# Altium footprint library ELEC(8.0X9.0)-TH.PcbLib: 1 footprints
Each footprint in its own frame and in the unit in brackets; x right, y up, seen from the top. Pads: shape width x height; smd on the part's side, far side on the other; paste and mask are expansions set on the pad; w line width, h text height; cw(c..) or ccw(c..) is an arc to the next point about the centre after c.
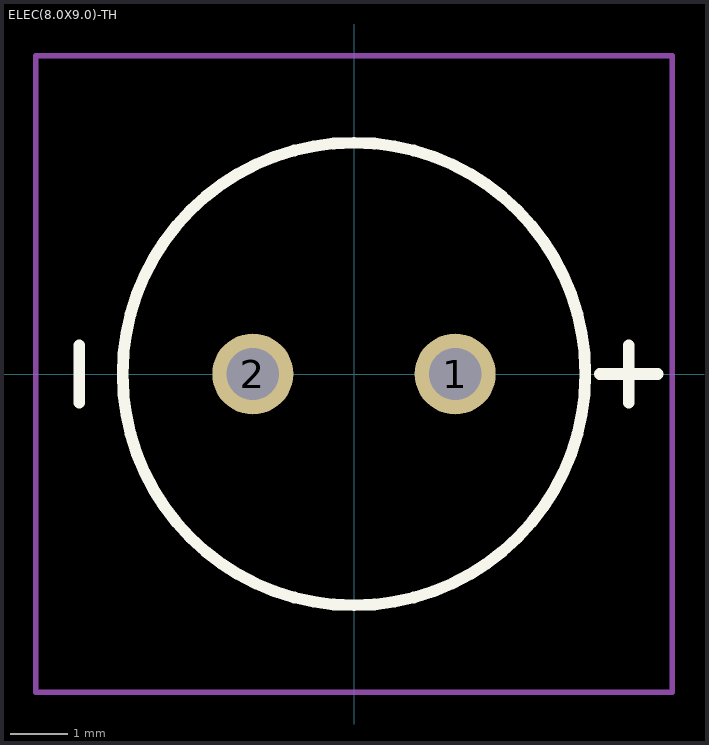
[diagram p0: the footprint, top view; thin cyan lines are the x and y axes]

## ELEC(8.0X9.0)-TH [mm]
pads (2):
  round 1.4 hole 0.9: 1(1.75,0) 2(-1.75,0)
Top Overlay:
  circle w0.2: c0,0 r4
  lines w0.2: -4.75,-0.5 -4.75,0.5 ; 4.25,0 5.25,0 ; 4.75,-0.5 4.75,0.5
Top Courtyard:
  lines w0.1: -5.5,-4 -5.5,-5.5 ; -4,-5.5 -5.5,-5.5 ; 4,5.5 5.5,5.5 ; 5.5,4 5.5,5.5 ; -5.5,-5.5 -5.5,5.5 5.5,5.5 ; -5.5,-5.5 5.5,-5.5 5.5,5.5
3D body: height 9, standoff 0, extent -4,-3.997 4,3.997